# Altium schematic symbol library RSCM17100Kxxx.SCHLIB: 1 symbol
Pins are listed as number, name and electrical type; pins without a type are passive.

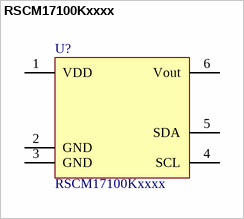
[diagram p0: symbol RSCM17100Kxxxx]

## RSCM17100Kxxxx
designator U?
footprint RSCM17100Kxxxx
pins: 1 VDD, 2 GND, 3 GND, 4 SCL, 5 SDA, 6 Vout